# Altium schematic symbol library LP2985.Schlib: 1 symbol
Pins are listed as number, name and electrical type; pins without a type are passive.

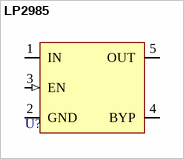
[diagram p0: symbol LP2985]

## LP2985
designator U?
pins: 1 IN, 2 GND, 3 EN (in), 4 BYP, 5 OUT